# EAGLE library part PINOCCIO_DERFMEGA256-23M00 (library my_deRFmodules)
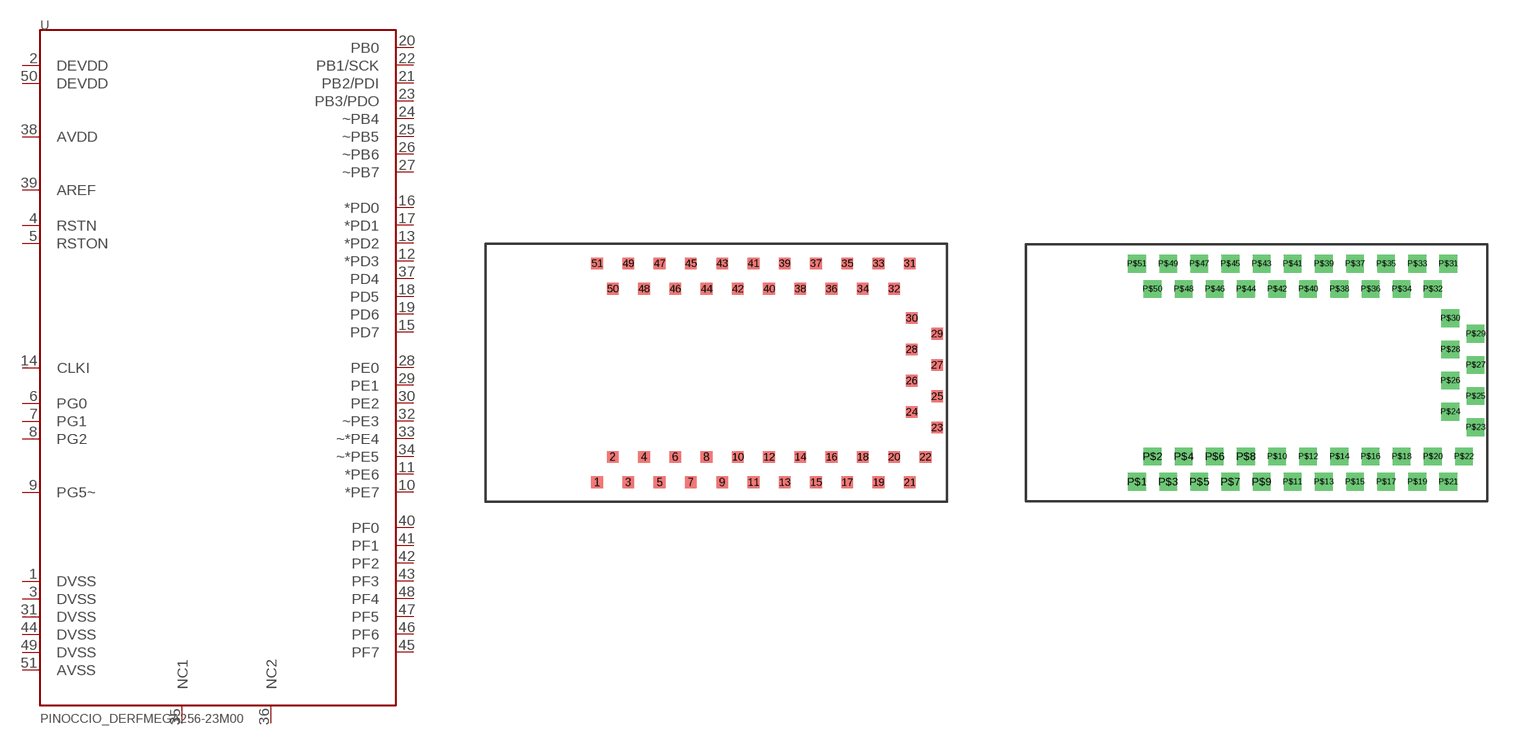
[diagram p1: symbol with the pads of A-M00; footprints A-M00, A-M00-TH]

Designator prefix -

## PINOCCIO_DERFMEGA256-23M00  [A-M00]
1  DVSS
2  DEVDD
3  DVSS
4  RSTN
5  RSTON
6  PG0
7  PG1
8  PG2
9  PG5~
10  *PE7
11  *PE6
12  *PD3
13  *PD2
14  CLKI
15  PD7
16  *PD0
17  *PD1
18  PD5
19  PD6
20  PB0
21  PB2/PDI
22  PB1/SCK
23  PB3/PDO
24  ~PB4
25  ~PB5
26  ~PB6
27  ~PB7
28  PE0
29  PE1
30  PE2
31  DVSS
32  ~PE3
33  ~*PE4
34  ~*PE5
35  NC1
36  NC2
37  PD4
38  AVDD
39  AREF
40  PF0
41  PF1
42  PF2
43  PF3
44  DVSS
45  PF7
46  PF6
47  PF5
48  PF4
49  DVSS
50  DEVDD
51  AVSS

## PINOCCIO_DERFMEGA256-23M00TH  [A-M00-TH]
P$1  DVSS
P$2  DEVDD
P$3  DVSS
P$4  RSTN
P$5  RSTON
P$6  PG0
P$7  PG1
P$8  PG2
P$9  PG5~
P$10  *PE7
P$11  *PE6
P$12  *PD3
P$13  *PD2
P$14  CLKI
P$15  PD7
P$16  *PD0
P$17  *PD1
P$18  PD5
P$19  PD6
P$20  PB0
P$21  PB2/PDI
P$22  PB1/SCK
P$23  PB3/PDO
P$24  ~PB4
P$25  ~PB5
P$26  ~PB6
P$27  ~PB7
P$28  PE0
P$29  PE1
P$30  PE2
P$31  DVSS
P$32  ~PE3
P$33  ~*PE4
P$34  ~*PE5
P$35  NC1
P$36  NC2
P$37  PD4
P$38  AVDD
P$39  AREF
P$40  PF0
P$41  PF1
P$42  PF2
P$43  PF3
P$44  DVSS
P$45  PF7
P$46  PF6
P$47  PF5
P$48  PF4
P$49  DVSS
P$50  DEVDD
P$51  AVSS

## Footprint A-M00 (pad centres in mm)
51pin LGA package, pitch 0.8mm
smd 0.6 x 0.6: 1 -6.1,-5.6; 2 -5.3,-4.3; 3 -4.5,-5.6; 4 -3.7,-4.3; 5 -2.9,-5.6; 6 -2.1,-4.3; 7 -1.3,-5.6; 8 -0.5,-4.3; 9 0.3,-5.6; 10 1.1,-4.3; 11 1.9,-5.6; 12 2.7,-4.3; 13 3.5,-5.6; 14 4.3,-4.3; 15 5.1,-5.6; 16 5.9,-4.3; 17 6.7,-5.6; 18 7.5,-4.3; 19 8.3,-5.6; 20 9.1,-4.3; 21 9.9,-5.6; 22 10.7,-4.3; 23 11.3,-2.8; 24 10,-2; 25 11.3,-1.2; 26 10,-0.4; 27 11.3,0.4; 28 10,1.2; 29 11.3,2; 30 10,2.8; 31 9.9,5.6; 32 9.1,4.3; 33 8.3,5.6; 34 7.5,4.3; 35 6.7,5.6; 36 5.9,4.3; 37 5.1,5.6; 38 4.3,4.3; 39 3.5,5.6; 40 2.7,4.3; 41 1.9,5.6; 42 1.1,4.3; 43 0.3,5.6; 44 -0.5,4.3; 45 -1.3,5.6; 46 -2.1,4.3; 47 -2.9,5.6; 48 -3.7,4.3; 49 -4.5,5.6; 50 -5.3,4.3; 51 -6.1,5.6

## Footprint A-M00-TH (pad centres in mm)
drill 0.4 pad 0.61 square: P$1 -6.1,-5.6; P$2 -5.3,-4.3; P$3 -4.5,-5.6; P$4 -3.7,-4.3; P$5 -2.9,-5.6; P$6 -2.1,-4.3; P$7 -1.3,-5.6; P$8 -0.5,-4.3; P$9 0.3,-5.6; P$10 1.1,-4.3; P$11 1.9,-5.6; P$12 2.7,-4.3; P$13 3.5,-5.6; P$14 4.3,-4.3; P$15 5.1,-5.6; P$16 5.9,-4.3; P$17 6.7,-5.6; P$18 7.5,-4.3; P$19 8.3,-5.6; P$20 9.1,-4.3; P$21 9.9,-5.6; P$22 10.7,-4.3; P$23 11.3,-2.8; P$24 10,-2; P$25 11.3,-1.2; P$26 10,-0.4; P$27 11.3,0.4; P$28 10,1.2; P$29 11.3,2; P$30 10,2.8; P$31 9.9,5.6; P$32 9.1,4.3; P$33 8.3,5.6; P$34 7.5,4.3; P$35 6.7,5.6; P$36 5.9,4.3; P$37 5.1,5.6; P$38 4.3,4.3; P$39 3.5,5.6; P$40 2.7,4.3; P$41 1.9,5.6; P$42 1.1,4.3; P$43 0.3,5.6; P$44 -0.5,4.3; P$45 -1.3,5.6; P$46 -2.1,4.3; P$47 -2.9,5.6; P$48 -3.7,4.3; P$49 -4.5,5.6; P$50 -5.3,4.3; P$51 -6.1,5.6